# Altium footprint library M5311.PcbLib: 2 footprints
Each footprint in its own frame and in the unit in brackets; x right, y up, seen from the top. Pads: shape width x height; smd on the part's side, far side on the other; paste and mask are expansions set on the pad; w line width, h text height; cw(c..) or ccw(c..) is an arc to the next point about the centre after c.
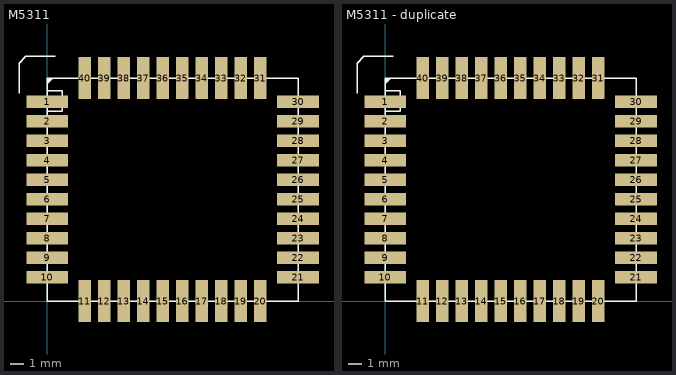
[diagram p0: the footprints below, top view; thin cyan lines are the x and y axes]

## M5311 [mm]
height 2.5
pads (40):
  rect 3x0.9 smd: 1(0,14.302) 2(0,12.902) 3(0,11.502) 4(0,10.102) 5(0,8.702) 6(0,7.302) 7(0,5.902) 8(0,4.502) 9(0,3.102) 10(0,1.702) 21(18,1.702) 22(18,3.102) 23(18,4.502) 24(18,5.902) 25(18,7.302) 26(18,8.702) 27(18,10.102) 28(18,11.502) 29(18,12.902) 30(18,14.302)
  rect 0.9x3 smd: 11(2.7,0.002) 12(4.1,0.002) 13(5.5,0.002) 14(6.9,0.002) 15(8.3,0.002) 16(9.7,0.002) 17(11.1,0.002) 18(12.5,0.002) 19(13.9,0.002) 20(15.3,0.002) 31(15.3,16.002) 32(13.9,16.002) 33(12.5,16.002) 34(11.1,16.002) 35(9.7,16.002) 36(8.3,16.002) 37(6.9,16.002) 38(5.5,16.002) 39(4.1,16.002) 40(2.7,16.002)
Top Overlay:
  lines w0.1: -2.02,14.911 -2.02,17.077 -1.52,17.577 0.566,17.577 ; 0.01,15.897 0.103,15.99 0.165,15.99 0.012,15.837 0.012,15.775 0.222,15.985 0.264,15.985 0.013,15.734 0.013,15.701 0.3,15.987 0.346,15.987 0.019,15.659 0.019,15.627 0.374,15.982 ; 0,0.002 0,16.002 18,16.002 18,0.002 0,0.002 ; 0,13.605 0,15.091 1.082,15.091 1.082,13.605 0,13.605

## M5311 - duplicate [mm]
height 2.5
pads (40):
  rect 3x0.9 smd: 1(0,14.302) 2(0,12.902) 3(0,11.502) 4(0,10.102) 5(0,8.702) 6(0,7.302) 7(0,5.902) 8(0,4.502) 9(0,3.102) 10(0,1.702) 21(18,1.702) 22(18,3.102) 23(18,4.502) 24(18,5.902) 25(18,7.302) 26(18,8.702) 27(18,10.102) 28(18,11.502) 29(18,12.902) 30(18,14.302)
  rect 0.9x3 smd: 11(2.7,0.002) 12(4.1,0.002) 13(5.5,0.002) 14(6.9,0.002) 15(8.3,0.002) 16(9.7,0.002) 17(11.1,0.002) 18(12.5,0.002) 19(13.9,0.002) 20(15.3,0.002) 31(15.3,16.002) 32(13.9,16.002) 33(12.5,16.002) 34(11.1,16.002) 35(9.7,16.002) 36(8.3,16.002) 37(6.9,16.002) 38(5.5,16.002) 39(4.1,16.002) 40(2.7,16.002)
Top Overlay:
  lines w0.1: -2.02,14.911 -2.02,17.077 -1.52,17.577 0.566,17.577 ; 0.01,15.897 0.103,15.99 0.165,15.99 0.012,15.837 0.012,15.775 0.222,15.985 0.264,15.985 0.013,15.734 0.013,15.701 0.3,15.987 0.346,15.987 0.019,15.659 0.019,15.627 0.374,15.982 ; 0,0.002 18,0.002 18,16.002 0,16.002 0,0.002 ; 0,13.605 1.082,13.605 1.082,15.091 0,15.091 0,13.605